# Altium footprint library connectors.PcbLib: 94 footprints (part 1 of 6)
Each footprint in its own frame and in the unit in brackets; x right, y up, seen from the top. Pads: shape width x height; smd on the part's side, far side on the other; paste and mask are expansions set on the pad; w line width, h text height; cw(c..) or ccw(c..) is an arc to the next point about the centre after c.
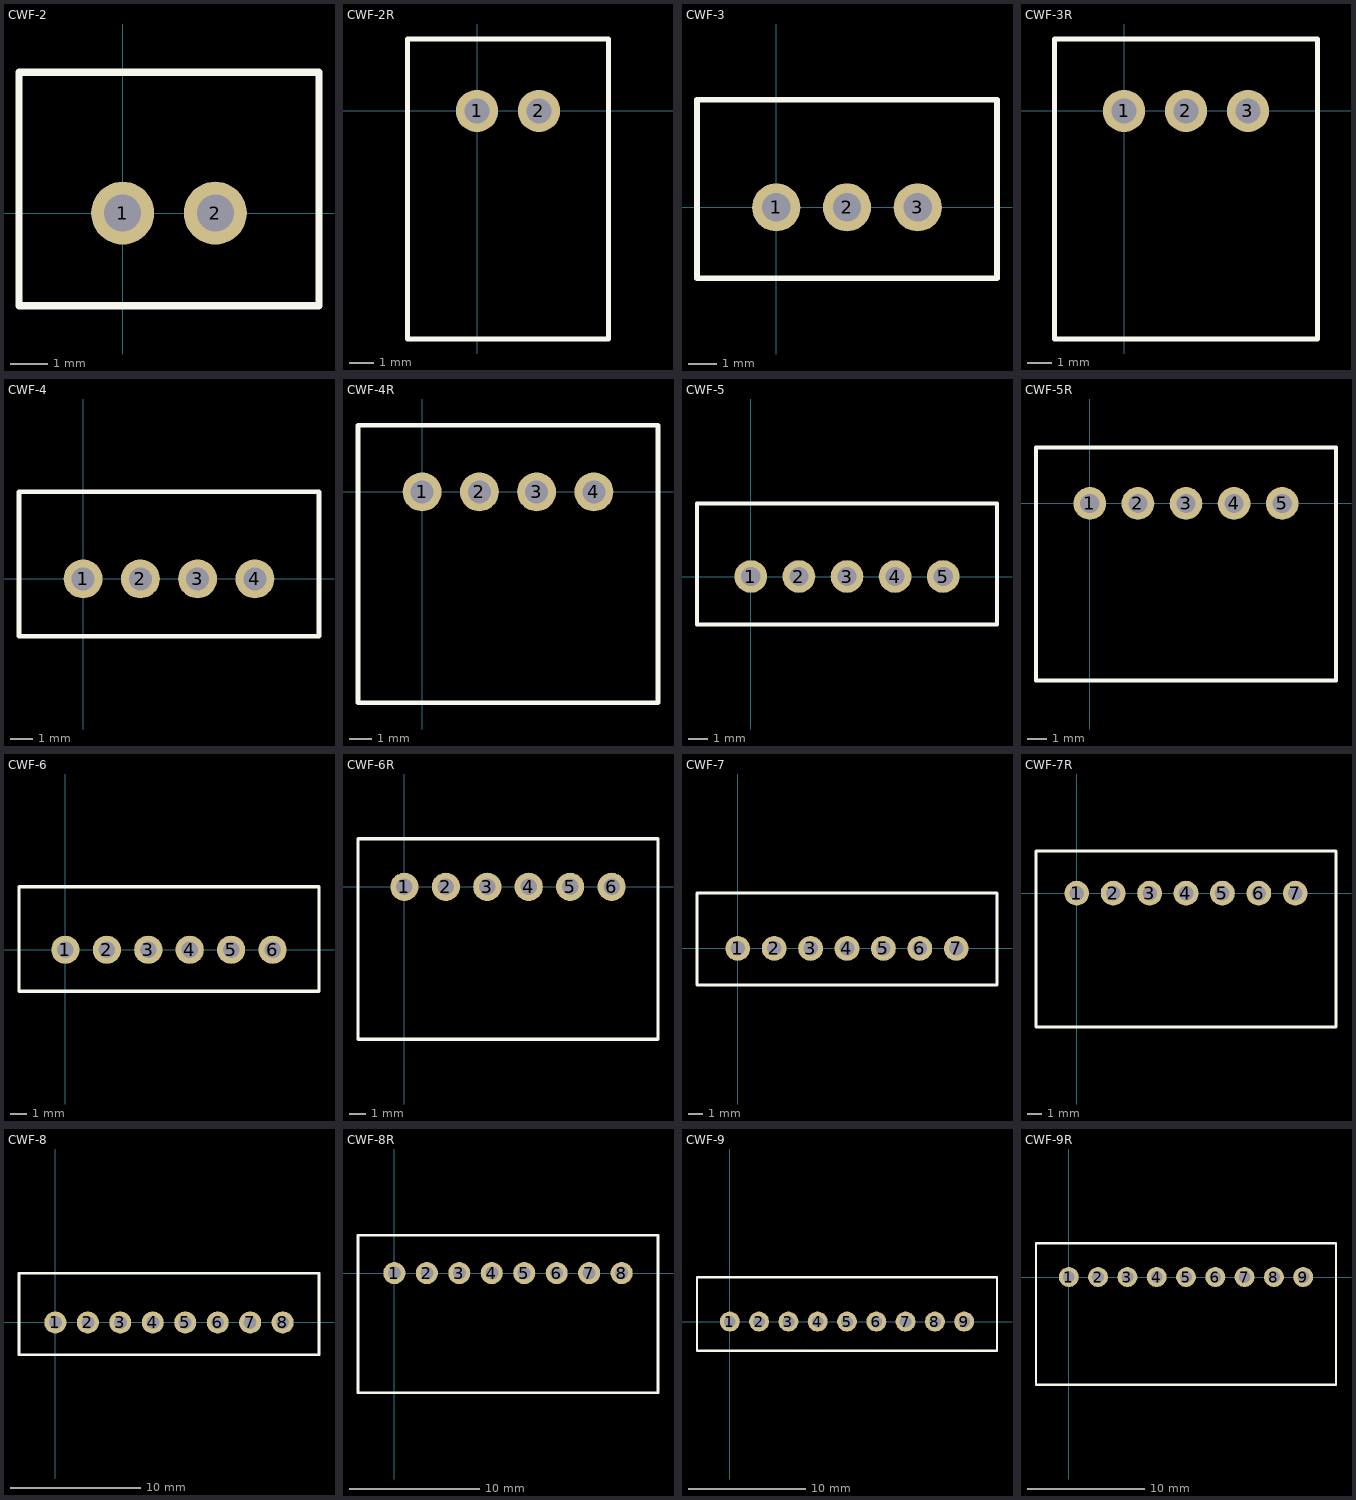
[diagram p0: the footprints below, top view; thin cyan lines are the x and y axes]

## CWF-2 [mm] "Pitch 2.50"
height 8.5
pads (2):
  round 1.7 hole 1 mask+0.1: 1(0,0) 2(2.5,0)
Top Overlay:
  lines w0.2: -2.8,-2.5 5.3,-2.5 5.3,3.8 -2.8,3.8 -2.8,-2.5
3D body "DS1069-2 CWF-2.stp": height 7, standoff -3.5, extent -2.5,-2.22 5,3.53

## CWF-2R [mm] "Pitch 2.50"
height 8.5
pads (2):
  round 1.7 hole 1 mask+0.1: 1(0,0) 2(2.5,0)
Top Overlay:
  lines w0.2: -2.8,-9.2 5.3,-9.2 5.3,2.9 -2.8,2.9 -2.8,-9.2
3D body "DS1069-2 CWF-2R.stp": height 5.75, standoff -3.5, extent -2.5,-8.9 5,2.6

## CWF-3 [mm] "Pitch 2.50"
height 8.5
pads (3):
  round 1.7 hole 1 mask+0.1: 1(0,0) 2(2.5,0) 3(5,0)
Top Overlay:
  lines w0.2: -2.8,-2.5 7.8,-2.5 7.8,3.8 -2.8,3.8 -2.8,-2.5
3D body "DS1069-3 CWF-3.stp": height 7, standoff -3.5, extent -2.5,-2.22 7.5,3.53

## CWF-3R [mm] "Pitch 2.50"
height 8.5
pads (3):
  round 1.7 hole 1 mask+0.1: 1(0,0) 2(2.5,0) 3(5,0)
Top Overlay:
  lines w0.2: -2.8,-9.2 7.8,-9.2 7.8,2.9 -2.8,2.9 -2.8,-9.2
3D body "DS1069-3 CWF-3R.stp": height 5.75, standoff -3.5, extent -2.5,-8.9 7.5,2.6

## CWF-4 [mm] "Pitch 2.50"
height 8.5
pads (4):
  round 1.7 hole 1 mask+0.1: 1(0,0) 2(2.5,0) 3(5,0) 4(7.5,0)
Top Overlay:
  lines w0.2: -2.8,-2.5 10.3,-2.5 10.3,3.8 -2.8,3.8 -2.8,-2.5
3D body "DS1069-4 CWF-4.stp": height 7, standoff -3.5, extent -2.5,-2.22 10,3.53

## CWF-4R [mm] "Pitch 2.50"
height 8.5
pads (4):
  round 1.7 hole 1 mask+0.1: 1(0,0) 2(2.5,0) 3(5,0) 4(7.5,0)
Top Overlay:
  lines w0.2: -2.8,-9.2 10.3,-9.2 10.3,2.9 -2.8,2.9 -2.8,-9.2
3D body "DS1069-4 CWF-4R.stp": height 5.75, standoff -3.5, extent -2.5,-8.9 10,2.6

## CWF-5 [mm] "Pitch 2.50"
height 8.5
pads (5):
  round 1.7 hole 1 mask+0.1: 1(0,0) 2(2.5,0) 3(5,0) 4(7.5,0) 5(10,0)
Top Overlay:
  lines w0.2: -2.8,-2.5 12.8,-2.5 12.8,3.8 -2.8,3.8 -2.8,-2.5
3D body "DS1069-5 CWF-5.stp": height 7, standoff -3.5, extent -2.5,-2.22 12.5,3.53

## CWF-5R [mm] "Pitch 2.50"
height 8.5
pads (5):
  round 1.7 hole 1 mask+0.1: 1(0,0) 2(2.5,0) 3(5,0) 4(7.5,0) 5(10,0)
Top Overlay:
  lines w0.2: -2.8,-9.2 -2.8,2.9 12.8,2.9 12.8,-9.2 -2.8,-9.2
3D body "DS1069-5 CWF-5R.stp": height 5.75, standoff -3.5, extent -2.5,-8.9 12.5,2.6

## CWF-6 [mm] "Pitch 2.50"
height 8.5
pads (6):
  round 1.7 hole 1 mask+0.1: 1(0,0) 2(2.5,0) 3(5,0) 4(7.5,0) 5(10,0) 6(12.5,0)
Top Overlay:
  lines w0.2: -2.8,-2.5 -2.8,3.8 15.3,3.8 15.3,-2.5 -2.8,-2.5
3D body "DS1069-6 CWF-6.stp": height 7, standoff -3.5, extent -2.5,-2.22 15,3.53

## CWF-6R [mm] "Pitch 2.50"
height 8.5
pads (6):
  round 1.7 hole 1 mask+0.1: 1(0,0) 2(2.5,0) 3(5,0) 4(7.5,0) 5(10,0) 6(12.5,0)
Top Overlay:
  lines w0.2: -2.8,-9.2 -2.8,2.9 15.3,2.9 15.3,-9.2 -2.8,-9.2
3D body "DS1069-6 CWF-6R.stp": height 5.75, standoff -3.5, extent -2.5,-8.9 15,2.6

## CWF-7 [mm] "Pitch 2.50"
height 8.5
pads (7):
  round 1.7 hole 1 mask+0.1: 1(0,0) 2(2.5,0) 3(5,0) 4(7.5,0) 5(10,0) 6(12.5,0) 7(15,0)
Top Overlay:
  lines w0.2: -2.8,-2.5 17.8,-2.5 17.8,3.8 -2.8,3.8 -2.8,-2.5
3D body "DS1069-7 CWF-7.stp": height 7, standoff -3.5, extent -2.5,-2.22 17.5,3.53

## CWF-7R [mm] "Pitch 2.50"
height 8.5
pads (7):
  round 1.7 hole 1 mask+0.1: 1(0,0) 2(2.5,0) 3(5,0) 4(7.5,0) 5(10,0) 6(12.5,0) 7(15,0)
Top Overlay:
  lines w0.2: -2.8,-9.2 17.8,-9.2 17.8,2.9 -2.8,2.9 -2.8,-9.2
3D body "DS1069-7 CWF-7R.stp": height 5.75, standoff -3.5, extent -2.5,-8.9 17.5,2.6

## CWF-8 [mm] "Pitch 2.50"
height 8.5
pads (8):
  round 1.7 hole 1 mask+0.1: 1(0,0) 2(2.5,0) 3(5,0) 4(7.5,0) 5(10,0) 6(12.5,0) 7(15,0) 8(17.5,0)
Top Overlay:
  lines w0.2: -2.8,-2.5 20.3,-2.5 20.3,3.8 -2.8,3.8 -2.8,-2.5
3D body "DS1069-8 CWF-8.stp": height 7, standoff -3.5, extent -2.5,-2.22 20,3.53

## CWF-8R [mm] "Pitch 2.50"
height 8.5
pads (8):
  round 1.7 hole 1 mask+0.1: 1(0,0) 2(2.5,0) 3(5,0) 4(7.5,0) 5(10,0) 6(12.5,0) 7(15,0) 8(17.5,0)
Top Overlay:
  lines w0.2: -2.8,-9.2 -2.8,2.9 20.3,2.9 20.3,-9.2 -2.8,-9.2
3D body "DS1069-8 CWF-8R.stp": height 5.75, standoff -3.5, extent -2.5,-8.9 20,2.6

## CWF-9 [mm] "Pitch 2.50"
height 8.5
pads (9):
  round 1.7 hole 1 mask+0.1: 1(0,0) 2(2.5,0) 3(5,0) 4(7.5,0) 5(10,0) 6(12.5,0) 7(15,0) 8(17.5,0) 9(20,0)
Top Overlay:
  lines w0.2: -2.8,-2.5 22.8,-2.5 22.8,3.8 -2.8,3.8 -2.8,-2.5
3D body "DS1069-9 CWF-9.stp": height 7, standoff -3.5, extent -2.5,-2.22 22.5,3.53

## CWF-9R [mm] "Pitch 2.50"
height 8.5
pads (9):
  round 1.7 hole 1 mask+0.1: 1(0,0) 2(2.5,0) 3(5,0) 4(7.5,0) 5(10,0) 6(12.5,0) 7(15,0) 8(17.5,0) 9(20,0)
Top Overlay:
  lines w0.2: -2.8,-9.2 22.8,-9.2 22.8,2.9 -2.8,2.9 -2.8,-9.2
3D body "DS1069-9 CWF-9R.stp": height 5.75, standoff -3.5, extent -2.5,-8.9 22.5,2.6